# Altium footprint library PCB - FUSE - KEYSTONE 3557.PCBLIB: 5 footprints
Each footprint in its own frame and in the unit in brackets; x right, y up, seen from the top. Pads: shape width x height; smd on the part's side, far side on the other; paste and mask are expansions set on the pad; w line width, h text height; cw(c..) or ccw(c..) is an arc to the next point about the centre after c.
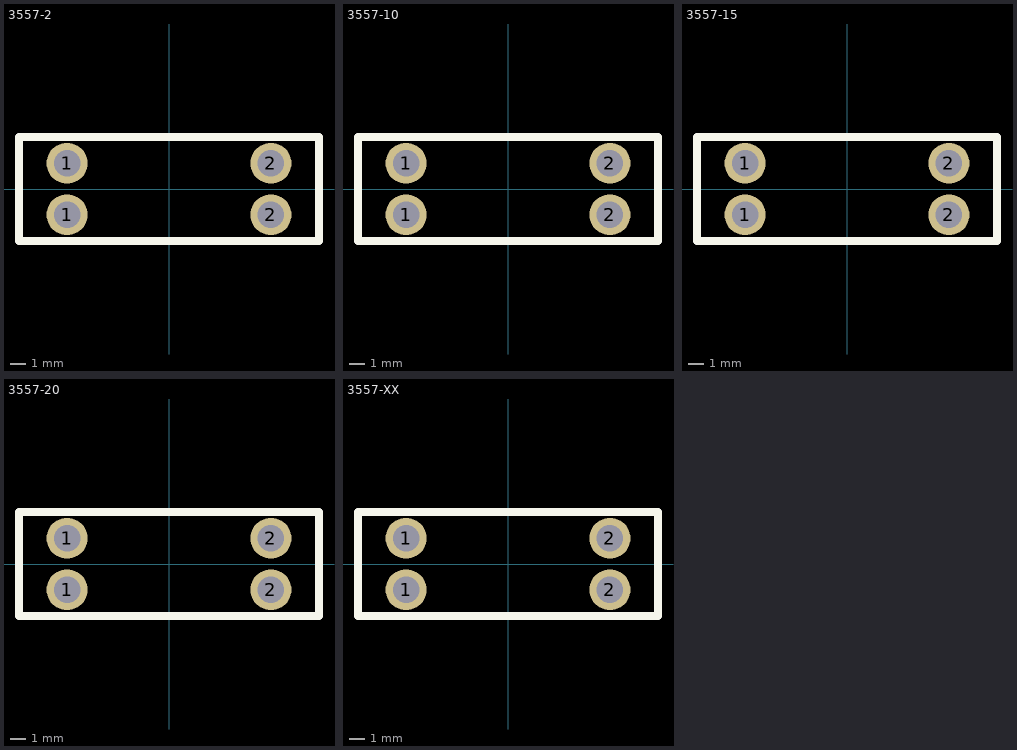
[diagram p0: the footprints below, top view; thin cyan lines are the x and y axes]

## 3557-2 [mm] "Keystone Electronics Fuse Holder Black"
height 7.4
pads (4):
  round 2.7 hole 1.75: 1(-6.735,-1.7) 1(-6.735,1.7) 2(6.735,-1.7) 2(6.735,1.7)
Top Overlay:
  lines w0.508: -9.906,-3.429 -9.906,3.429 9.906,3.429 9.906,-3.429 -9.906,-3.429
3D body "keystone-PN3557-15.STEP": height 8.04, standoff -2.12, extent -9.914,-3.366 9.898,3.365

## 3557-10 [mm] "Keystone Electronics Fuse Holder Red"
height 7.4
pads (4):
  round 2.7 hole 1.75: 1(-6.735,-1.7) 1(-6.735,1.7) 2(6.735,-1.7) 2(6.735,1.7)
Top Overlay:
  lines w0.508: -9.906,-3.429 -9.906,3.429 9.906,3.429 9.906,-3.429 -9.906,-3.429
3D body "keystone-PN3557-15.STEP": height 8.04, standoff -2.12, extent -9.914,-3.366 9.898,3.365

## 3557-15 [mm] "Keystone Electronics Fuse Holder Blue"
height 7.4
pads (4):
  round 2.7 hole 1.75: 1(-6.735,-1.7) 1(-6.735,1.7) 2(6.735,-1.7) 2(6.735,1.7)
Top Overlay:
  lines w0.508: -9.906,-3.429 -9.906,3.429 9.906,3.429 9.906,-3.429 -9.906,-3.429
3D body "keystone-PN3557-15.STEP": height 8.04, standoff -2.12, extent -9.914,-3.366 9.898,3.365

## 3557-20 [mm] "Keystone Electronics Fuse Holder Yellow"
height 7.4
pads (4):
  round 2.7 hole 1.75: 1(-6.735,-1.7) 1(-6.735,1.7) 2(6.735,-1.7) 2(6.735,1.7)
Top Overlay:
  lines w0.508: -9.906,-3.429 -9.906,3.429 9.906,3.429 9.906,-3.429 -9.906,-3.429
3D body "keystone-PN3557-15.STEP": height 8.04, standoff -2.12, extent -9.914,-3.366 9.898,3.365

## 3557-XX [mm] "Keystone Electronics Fuse Holder Generic"
height 7.4
pads (4):
  round 2.7 hole 1.75: 1(-6.735,-1.7) 1(-6.735,1.7) 2(6.735,-1.7) 2(6.735,1.7)
Top Overlay:
  lines w0.508: -9.906,-3.429 -9.906,3.429 9.906,3.429 9.906,-3.429 -9.906,-3.429
3D body "keystone-PN3557-15.STEP": height 8.04, standoff -2.12, extent -9.914,-3.366 9.898,3.365